# Altium footprint library SOT-23-5_MC_MCH-L.PcbLib: 1 footprints
Each footprint in its own frame and in the unit in brackets; x right, y up, seen from the top. Pads: shape width x height; smd on the part's side, far side on the other; paste and mask are expansions set on the pad; w line width, h text height; cw(c..) or ccw(c..) is an arc to the next point about the centre after c.
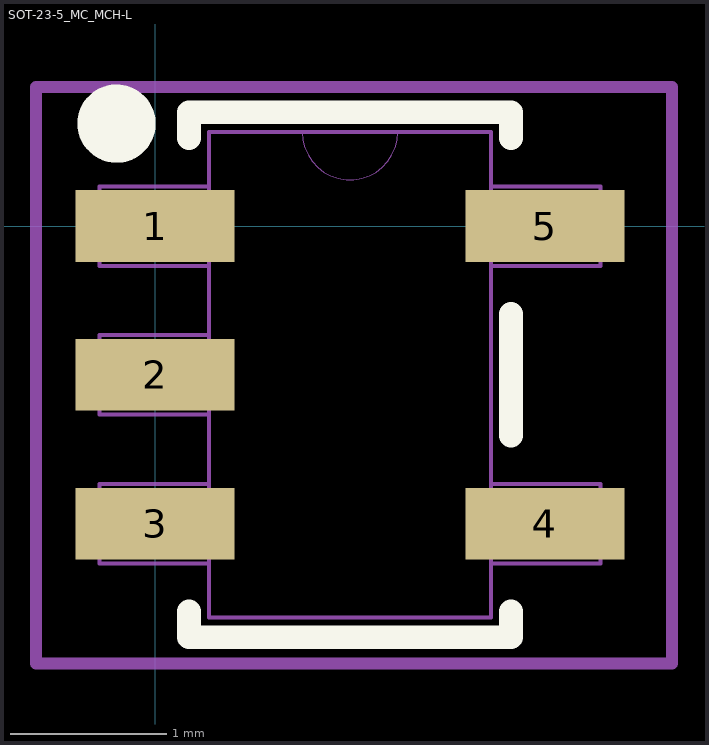
[diagram p0: the footprint, top view; thin cyan lines are the x and y axes]

## SOT-23-5_MC_MCH-L [mil]
pads (5):
  rect 40x18 smd: 1(0,0) 2(0,-37.4) 3(0,-74.8) 4(98,-74.8) 5(98,0)
Top Overlay:
  circle w9.84: c-9.72,25.77 r4.92
  lines w6: 8.5,-96.9 8.5,-103.4 89.5,-103.4 89.5,-96.9 ; 8.5,22.1 8.5,28.6 89.5,28.6 89.5,22.1 ; 89.5,-52.7 89.5,-22.1
Mechanical 13:
  lines w0: 37,23.6 ccw(c49,23.6) 61,23.6
  lines w1: -14,-84.8 -14,-64.8 13.5,-64.8 13.5,-84.8 -14,-84.8 ; -14,-47.4 -14,-27.4 13.5,-27.4 13.5,-47.4 -14,-47.4 ; -14,-10 -14,10 13.5,10 13.5,-10 -14,-10 ; 13.5,-98.4 84.5,-98.4 84.5,23.6 13.5,23.6 13.5,-98.4 ; 84.5,-84.8 84.5,-64.8 112,-64.8 112,-84.8 84.5,-84.8 ; 84.5,-10 84.5,10 112,10 112,-10 84.5,-10
Mechanical 15:
  lines w3: -30,-110 -30,35 130,35 130,-110 -30,-110
3D body "SOT-23-5_MC_MCH.step": height 57.09, standoff 0, extent -13.99,-98.39 111.99,23.58